# Altium schematic symbol library BD139.SchLib: 1 symbol
Pins are listed as number, name and electrical type; pins without a type are passive.

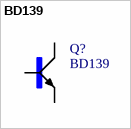
[diagram p0: symbol BD139]

## BD139
designator Q?
Transistor NPN BD139 CONTINENTAL DEVICE RoHS Ampere=1 TO126; MF: ON Semiconductor; Price: None; Package: TO-126-3 Continental Device; MP: BD139; Availability: Unavailable; SnapEDA_Link: https://www.snapeda.com/parts/BD139/ON%20Semiconductor/view-part/?ref=snap; Value: *
footprint TO126AV_BD139(Primary)
pins: B, C, E